# Altium schematic symbol library Cover.SchLib: 2 symbols
Pins are listed as number, name and electrical type; pins without a type are passive.

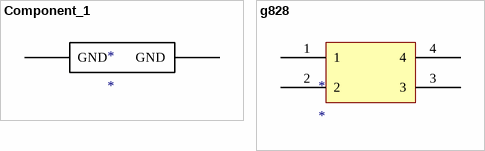
[diagram p0: symbols Component_1 to g828]

## Component_1
designator *
footprint Cover
pins: 1 GND (power), 2 GND

## g828
designator *
footprint G828
pins: 1, 2, 3, 4